# Altium schematic symbol library capacitor_0805.SchLib: 8 symbols
Pins are listed as number, name and electrical type; pins without a type are passive.

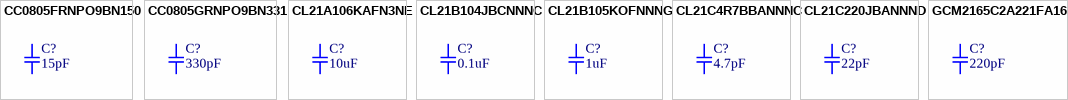
[diagram p0: symbols CC0805FRNPO9BN150 to GCM2165C2A221FA16D]

## CC0805FRNPO9BN150
designator C?, comment 15pF
Cap Ceramic 15pF 50V C0G 1%  0805; Part Number: CC0805FRNPO9BN150; Manufacturer: Yaego; Package / Case: 0805; Voltage: 50V; Tolerance: 1%; VALUE: 15pF
footprint SMD-0805C (Footprint not found)
pins: 1, 2

## CC0805GRNPO9BN331
designator C?, comment 330pF
Cap Ceramic 330pF 50V C0G 2%  0805; Part Number: CC0805GRNPO9BN331; Manufacturer: Yageo; Package / Case: 0805; Voltage: 50V; Tolerance: 2%; VALUE: 330pF
footprint SMD-0805C (Footprint not found)
pins: 1, 2

## CL21A106KAFN3NE
designator C?, comment 10uF
Cap Ceramic 10uF 25V X5R 10% 0805; Part Number: CL21A106KAFN3NE; Manufacturer: Samsung Electro-Mechanics; Package / Case: 0805; Voltage: 25V; Tolerance: 10%; VALUE: 10uF
footprint SMD-0805C (Footprint not found)
pins: 1, 2

## CL21B104JBCNNNC
designator C?, comment 0.1uF
CAP CER 0.1uF 50V X7T 0805; Part Number: GC321AD72E103KX01D; Manufacturer: Samsung Electro-Mechanics; Tolerance: 5%; Package / Case: 0805; Voltage: 50V; VALUE: 0.1uF
footprint SMD-0805C
pins: 1, 2

## CL21B105KOFNNNG
designator C?, comment 1uF
CAP CER 1uF 16V X7T 0805; Part Number: CL21B105KOFNNNG; Manufacturer: Samsung Electro-Mechanics; Tolerance: 10%; Package / Case: 0805; Voltage: 16V; VALUE: 1uF
footprint SMD-0805C (Footprint not found)
pins: 1, 2

## CL21C4R7BBANNNC
designator C?, comment 4.7pF
Cap Ceramic 4.7pF 50V C0G 0.1pF  0805; Part Number: CL21C4R7BBANNNC; Manufacturer: Samsung Electro-Mechanics; Package / Case: 0805; Voltage: 50V; Tolerance: 0.1pF; VALUE: 4.7pF
footprint SMD-0805C (Footprint not found)
pins: 1, 2

## CL21C220JBANNND
designator C?, comment 22pF
Cap Ceramic 22pF 50V C0G 5%0805; Part Number: CL21C220JBANNND; Manufacturer: Samsung Electro-Mechanics; Voltage: 100V; Tolerance: 1%; Package / Case: 0805; VALUE: 22pF
footprint SMD-0805C (Footprint not found)
pins: 1, 2

## GCM2165C2A221FA16D
designator C?, comment 220pF
Cap Ceramic 220pF 100V C0G 1% 0805; Part Number: GCM2165C2A221FA16D; Manufacturer: Murata Manufacturing; Package / Case: 0805; Voltage: 100V; Tolerance: 1%; VALUE: 220pF
footprint SMD-0805C (Footprint not found)
pins: 1, 2